# Altium footprint library Con Rect Stag PCB.PcbLib: 59 footprints (part 3 of 4)
Each footprint in its own frame and in the unit in brackets; x right, y up, seen from the top. Pads: shape width x height; smd on the part's side, far side on the other; paste and mask are expansions set on the pad; w line width, h text height; cw(c..) or ccw(c..) is an arc to the next point about the centre after c.
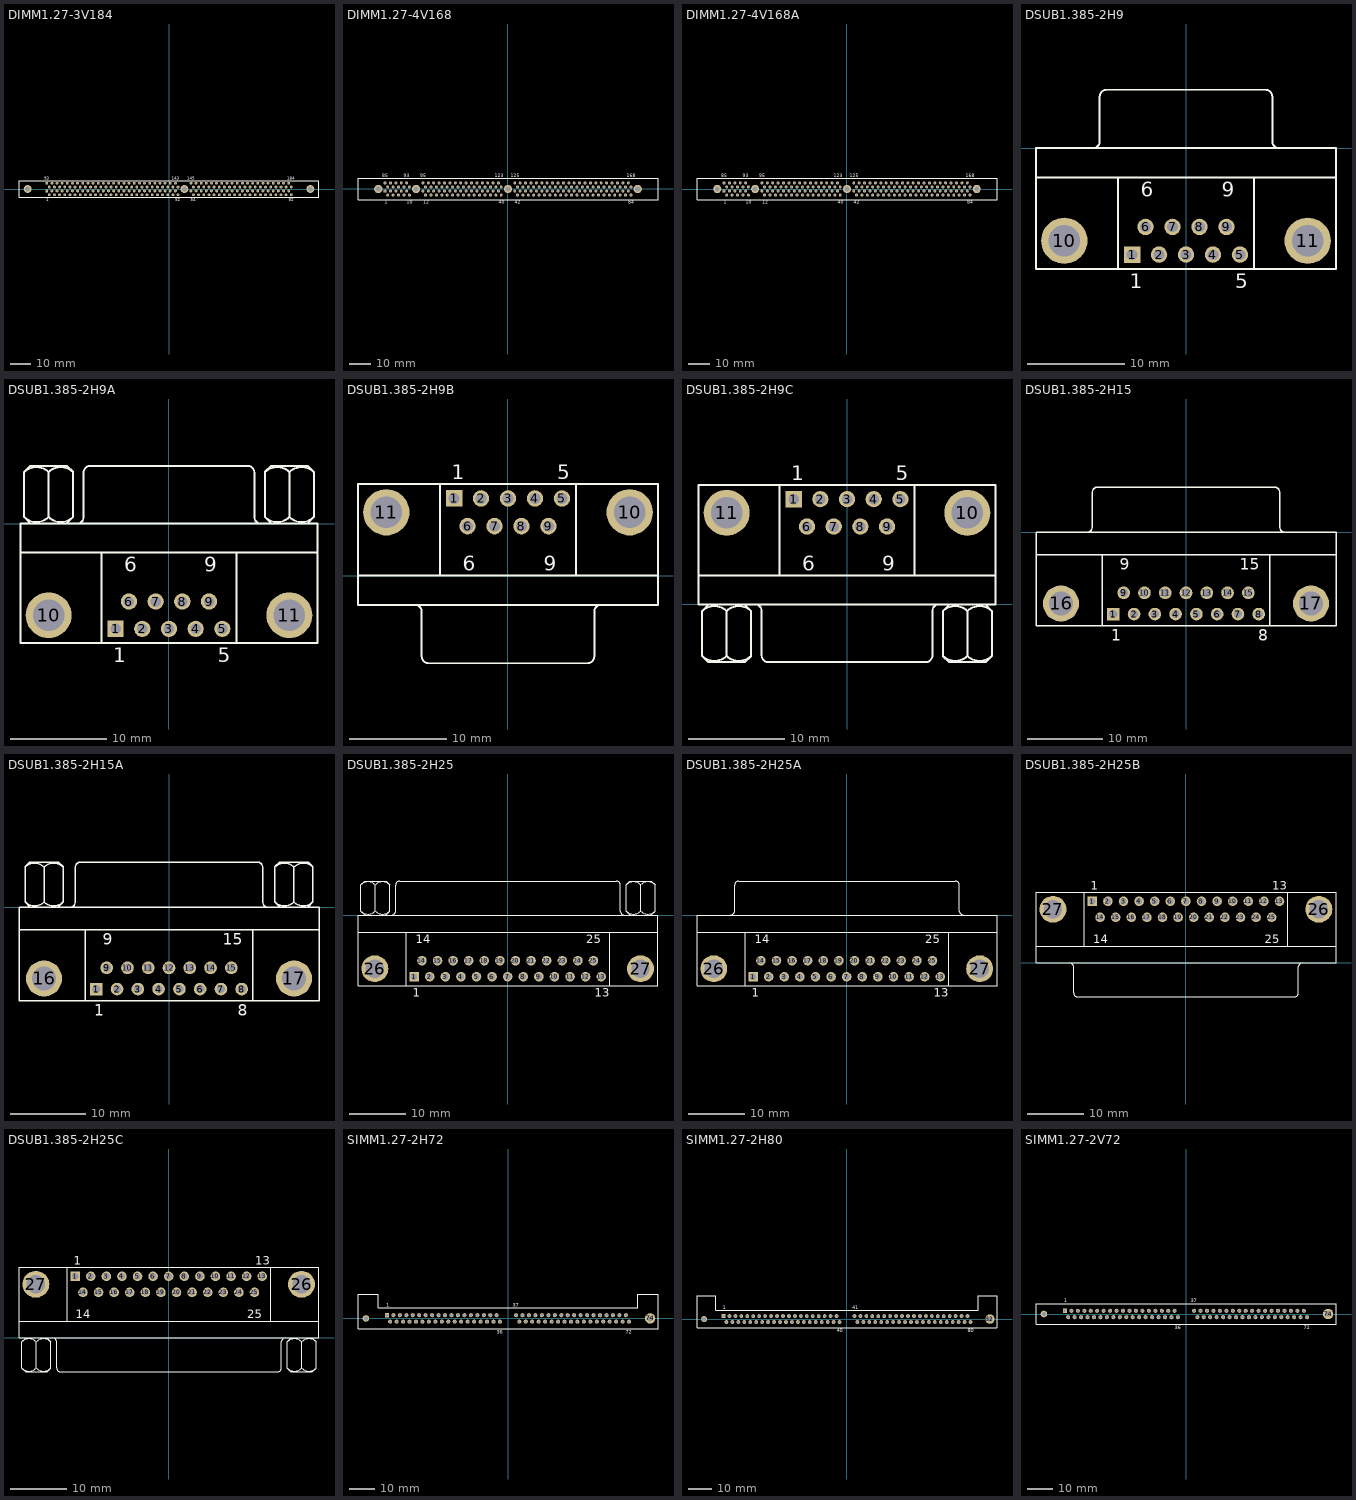
[diagram p2: the footprints below, top view; thin cyan lines are the x and y axes]

## DIMM1.27-3V184 [mm] "Connector; DIMM II; 184 Position; Vertical"
height 23.76
pads (187):
  rect 1.41x1.41 hole 0.81: 1(-60.325,-0.95)
  round 1.41 hole 0.81: 2(-59.055,-2.85) 3(-57.785,-0.95) 4(-56.515,-2.85) 5(-55.245,-0.95) 6(-53.975,-2.85) 7(-52.705,-0.95) 8(-51.435,-2.85) 9(-50.165,-0.95) 10(-48.895,-2.85) 11(-47.625,-0.95) 12(-46.355,-2.85) 13(-45.085,-0.95) 14(-43.815,-2.85) 15(-42.545,-0.95) 16(-41.275,-2.85) 17(-40.005,-0.95) 18(-38.735,-2.85) 19(-37.465,-0.95) 20(-36.195,-2.85) 21(-34.925,-0.95) 22(-33.655,-2.85) 23(-32.385,-0.95) 24(-31.115,-2.85) 25(-29.845,-0.95) 26(-28.575,-2.85) 27(-27.305,-0.95) 28(-26.035,-2.85) 29(-24.765,-0.95) 30(-23.495,-2.85) 31(-22.225,-0.95) 32(-20.955,-2.85) 33(-19.685,-0.95) 34(-18.415,-2.85) 35(-17.145,-0.95) 36(-15.875,-2.85) 37(-14.605,-0.95) 38(-13.335,-2.85) 39(-12.065,-0.95) 40(-10.795,-2.85) 41(-9.525,-0.95) 42(-8.255,-2.85) 43(-6.985,-0.95) 44(-5.715,-2.85) 45(-4.445,-0.95) 46(-3.175,-2.85) 47(-1.905,-0.95) 48(-0.635,-2.85) 49(0.635,-0.95) 50(1.905,-2.85) 51(3.175,-0.95) 52(4.445,-2.85) 53(10.795,-0.95) 54(12.065,-2.85) 55(13.335,-0.95) 56(14.605,-2.85) 57(15.875,-0.95) 58(17.145,-2.85) 59(18.415,-0.95) 60(19.685,-2.85) 61(20.955,-0.95) 62(22.225,-2.85) 63(23.495,-0.95) 64(24.765,-2.85) 65(26.035,-0.95) 66(27.305,-2.85) 67(28.575,-0.95) 68(29.845,-2.85) 69(31.115,-0.95) 70(32.385,-2.85) 71(33.655,-0.95) 72(34.925,-2.85) 73(36.195,-0.95) 74(37.465,-2.85) 75(38.735,-0.95) 76(40.005,-2.85) 77(41.275,-0.95) 78(42.545,-2.85) 79(43.815,-0.95) 80(45.085,-2.85) 81(46.355,-0.95) 82(47.625,-2.85) 83(48.895,-0.95) 84(50.165,-2.85) 85(51.435,-0.95) 86(52.705,-2.85) 87(53.975,-0.95) 88(55.245,-2.85) 89(56.515,-0.95) 90(57.785,-2.85) 91(59.055,-0.95) 92(60.325,-2.85) 93(-60.325,2.85) 94(-59.055,0.95) 95(-57.785,2.85) 96(-56.515,0.95) 97(-55.245,2.85) 98(-53.975,0.95) 99(-52.705,2.85) 100(-51.435,0.95) 101(-50.165,2.85) 102(-48.895,0.95) 103(-47.625,2.85) 104(-46.355,0.95) 105(-45.085,2.85) 106(-43.815,0.95) 107(-42.545,2.85) 108(-41.275,0.95) 109(-40.005,2.85) 110(-38.735,0.95) 111(-37.465,2.85) 112(-36.195,0.95) 113(-34.925,2.85) 114(-33.655,0.95) 115(-32.385,2.85) 116(-31.115,0.95) 117(-29.845,2.85) 118(-28.575,0.95) 119(-27.305,2.85) 120(-26.035,0.95) 121(-24.765,2.85) 122(-23.495,0.95) 123(-22.225,2.85) 124(-20.955,0.95) 125(-19.685,2.85) 126(-18.415,0.95) 127(-17.145,2.85) 128(-15.875,0.95) 129(-14.605,2.85) 130(-13.335,0.95) 131(-12.065,2.85) 132(-10.795,0.95) 133(-9.525,2.85) 134(-8.255,0.95) 135(-6.985,2.85) 136(-5.715,0.95) 137(-4.445,2.85) 138(-3.175,0.95) 139(-1.905,2.85) 140(-0.635,0.95) 141(0.635,2.85) 142(1.905,0.95) 143(3.175,2.85) 144(4.445,0.95) 145(10.795,2.85) 146(12.065,0.95) 147(13.335,2.85) 148(14.605,0.95) 149(15.875,2.85) 150(17.145,0.95) 151(18.415,2.85) 152(19.685,0.95) 153(20.955,2.85) 154(22.225,0.95) 155(23.495,2.85) 156(24.765,0.95) 157(26.035,2.85) 158(27.305,0.95) 159(28.575,2.85) 160(29.845,0.95) 161(31.115,2.85) 162(32.385,0.95) 163(33.655,2.85) 164(34.925,0.95) 165(36.195,2.85) 166(37.465,0.95) 167(38.735,2.85) 168(40.005,0.95) 169(41.275,2.85) 170(42.545,0.95) 171(43.815,2.85) 172(45.085,0.95) 173(46.355,2.85) 174(47.625,0.95) 175(48.895,2.85) 176(50.165,0.95) 177(51.435,2.85) 178(52.705,0.95) 179(53.975,2.85) 180(55.245,0.95) 181(56.515,2.85) 182(57.785,0.95) 183(59.055,2.85) 184(60.325,0.95)
  round 3.9 hole 2.44: 185(-69.735,0) 186(7.605,0) 187(69.735,0)
Top Overlay:
  lines w0.2: -74,-4 74,-4 74,4 -74,4 -74,-4
  text "143" at 1.3,4.475 h1.5
  text "93" at -61.575,4.475 h1.5
  text "184" at 58.45,4.475 h1.5
  text "92" at 59.075,-5.975 h1.5
  text "145" at 8.92,4.475 h1.5
  text "54" at 10.815,-5.975 h1.5
  text "52" at 3.195,-5.975 h1.5
  text "1" at -60.575,-5.975 h1.5

## DIMM1.27-4V168 [mm] "Connector; DIMM II; 168 Position; Vertical"
height 23.77
pads (172):
  rect 1.4x1.4 hole 0.81: 1(-57.78,-0.95)
  round 1.4 hole 0.81: 2(-56.51,-2.85) 3(-55.24,-0.95) 4(-53.97,-2.85) 5(-52.7,-0.95) 6(-51.43,-2.85) 7(-50.16,-0.95) 8(-48.89,-2.85) 9(-47.62,-0.95) 10(-46.35,-2.85) 11(-40,-0.95) 12(-38.73,-2.85) 13(-37.46,-0.95) 14(-36.19,-2.85) 15(-34.92,-0.95) 16(-33.65,-2.85) 17(-32.38,-0.95) 18(-31.11,-2.85) 19(-29.84,-0.95) 20(-28.57,-2.85) 21(-27.3,-0.95) 22(-26.03,-2.85) 23(-24.76,-0.95) 24(-23.49,-2.85) 25(-22.22,-0.95) 26(-20.95,-2.85) 27(-19.68,-0.95) 28(-18.41,-2.85) 29(-17.14,-0.95) 30(-15.87,-2.85) 31(-14.6,-0.95) 32(-13.33,-2.85) 33(-12.06,-0.95) 34(-10.79,-2.85) 35(-9.52,-0.95) 36(-8.25,-2.85) 37(-6.98,-0.95) 38(-5.71,-2.85) 39(-4.44,-0.95) 40(-3.17,-2.85) 41(3.18,-0.95) 42(4.45,-2.85) 43(5.72,-0.95) 44(6.99,-2.85) 45(8.26,-0.95) 46(9.53,-2.85) 47(10.8,-0.95) 48(12.07,-2.85) 49(13.34,-0.95) 50(14.61,-2.85) 51(15.88,-0.95) 52(17.15,-2.85) 53(18.42,-0.95) 54(19.69,-2.85) 55(20.96,-0.95) 56(22.23,-2.85) 57(23.5,-0.95) 58(24.77,-2.85) 59(26.04,-0.95) 60(27.31,-2.85) 61(28.58,-0.95) 62(29.85,-2.85) 63(31.12,-0.95) 64(32.39,-2.85) 65(33.66,-0.95) 66(34.93,-2.85) 67(36.2,-0.95) 68(37.47,-2.85) 69(38.74,-0.95) 70(40.01,-2.85) 71(41.28,-0.95) 72(42.55,-2.85) 73(43.82,-0.95) 74(45.09,-2.85) 75(46.36,-0.95) 76(47.63,-2.85) 77(48.9,-0.95) 78(50.17,-2.85) 79(51.44,-0.95) 80(52.71,-2.85) 81(53.98,-0.95) 82(55.25,-2.85) 83(56.52,-0.95) 84(57.79,-2.85) 85(-57.78,2.85) 86(-56.51,0.95) 87(-55.24,2.85) 88(-53.97,0.95) 89(-52.7,2.85) 90(-51.43,0.95) 91(-50.16,2.85) 92(-48.89,0.95) 93(-47.62,2.85) 94(-46.35,0.95) 95(-40,2.85) 96(-38.73,0.95) 97(-37.46,2.85) 98(-36.19,0.95) 99(-34.92,2.85) 100(-33.65,0.95) 101(-32.38,2.85) 102(-31.11,0.95) 103(-29.84,2.85) 104(-28.57,0.95) 105(-27.3,2.85) 106(-26.03,0.95) 107(-24.76,2.85) 108(-23.49,0.95) 109(-22.22,2.85) 110(-20.95,0.95) 111(-19.68,2.85) 112(-18.41,0.95) 113(-17.14,2.85) 114(-15.87,0.95) 115(-14.6,2.85) 116(-13.33,0.95) 117(-12.06,2.85) 118(-10.79,0.95) 119(-9.52,2.85) 120(-8.25,0.95) 121(-6.98,2.85) 122(-5.71,0.95) 123(-4.44,2.85) 124(-3.17,0.95) 125(3.18,2.85) 126(4.45,0.95) 127(5.72,2.85) 128(6.99,0.95) 129(8.26,2.85) 130(9.53,0.95) 131(10.8,2.85) 132(12.07,0.95) 133(13.34,2.85) 134(14.61,0.95) 135(15.88,2.85) 136(17.15,0.95) 137(18.42,2.85) 138(19.69,0.95) 139(20.96,2.85) 140(22.23,0.95) 141(23.5,2.85) 142(24.77,0.95) 143(26.04,2.85) 144(27.31,0.95) 145(28.58,2.85) 146(29.85,0.95) 147(31.12,2.85) 148(32.39,0.95) 149(33.66,2.85) 150(34.93,0.95) 151(36.2,2.85) 152(37.47,0.95) 153(38.74,2.85) 154(40.01,0.95) 155(41.28,2.85) 156(42.55,0.95) 157(43.82,2.85) 158(45.09,0.95) 159(46.36,2.85) 160(47.63,0.95) 161(48.9,2.85) 162(50.17,0.95) 163(51.44,2.85) 164(52.71,0.95) 165(53.98,2.85) 166(55.25,0.95) 167(56.52,2.85) 168(57.79,0.95)
  round 3.9 hole 2.44: 169(-60.96,0) 170(-43.18,0) 171(0.005,0) 172(60.96,0)
Top Overlay:
  lines w0.2: -70.485,-5 70.495,-5 70.495,5 -70.485,5 -70.485,-5
  text "95" at -41.25,5.475 h1.5
  text "12" at -39.855,-6.975 h1.5
  text "1" at -58.03,-6.975 h1.5
  text "85" at -59.03,5.475 h1.5
  text "10" at -47.475,-6.975 h1.5
  text "93" at -48.87,5.475 h1.5
  text "40" at -4.42,-6.975 h1.5
  text "42" at 3.2,-6.975 h1.5
  text "123" at -6.315,5.475 h1.5
  text "125" at 1.305,5.475 h1.5
  text "84" at 56.54,-6.975 h1.5
  text "168" at 55.915,5.475 h1.5

## DIMM1.27-4V168A [mm] "Connector; DIMM II; 168 Position; Vertical"
height 23.76
pads (172):
  rect 1.4x1.4 hole 0.81: 1(-57.78,-0.95)
  round 1.4 hole 0.81: 2(-56.51,-2.85) 3(-55.24,-0.95) 4(-53.97,-2.85) 5(-52.7,-0.95) 6(-51.43,-2.85) 7(-50.16,-0.95) 8(-48.89,-2.85) 9(-47.62,-0.95) 10(-46.35,-2.85) 11(-40,-0.95) 12(-38.73,-2.85) 13(-37.46,-0.95) 14(-36.19,-2.85) 15(-34.92,-0.95) 16(-33.65,-2.85) 17(-32.38,-0.95) 18(-31.11,-2.85) 19(-29.84,-0.95) 20(-28.57,-2.85) 21(-27.3,-0.95) 22(-26.03,-2.85) 23(-24.76,-0.95) 24(-23.49,-2.85) 25(-22.22,-0.95) 26(-20.95,-2.85) 27(-19.68,-0.95) 28(-18.41,-2.85) 29(-17.14,-0.95) 30(-15.87,-2.85) 31(-14.6,-0.95) 32(-13.33,-2.85) 33(-12.06,-0.95) 34(-10.79,-2.85) 35(-9.52,-0.95) 36(-8.25,-2.85) 37(-6.98,-0.95) 38(-5.71,-2.85) 39(-4.44,-0.95) 40(-3.17,-2.85) 41(3.18,-0.95) 42(4.45,-2.85) 43(5.72,-0.95) 44(6.99,-2.85) 45(8.26,-0.95) 46(9.53,-2.85) 47(10.8,-0.95) 48(12.07,-2.85) 49(13.34,-0.95) 50(14.61,-2.85) 51(15.88,-0.95) 52(17.15,-2.85) 53(18.42,-0.95) 54(19.69,-2.85) 55(20.96,-0.95) 56(22.23,-2.85) 57(23.5,-0.95) 58(24.77,-2.85) 59(26.04,-0.95) 60(27.31,-2.85) 61(28.58,-0.95) 62(29.85,-2.85) 63(31.12,-0.95) 64(32.39,-2.85) 65(33.66,-0.95) 66(34.93,-2.85) 67(36.2,-0.95) 68(37.47,-2.85) 69(38.74,-0.95) 70(40.01,-2.85) 71(41.28,-0.95) 72(42.55,-2.85) 73(43.82,-0.95) 74(45.09,-2.85) 75(46.36,-0.95) 76(47.63,-2.85) 77(48.9,-0.95) 78(50.17,-2.85) 79(51.44,-0.95) 80(52.71,-2.85) 81(53.98,-0.95) 82(55.25,-2.85) 83(56.52,-0.95) 84(57.79,-2.85) 85(-57.78,2.85) 86(-56.51,0.95) 87(-55.24,2.85) 88(-53.97,0.95) 89(-52.7,2.85) 90(-51.43,0.95) 91(-50.16,2.85) 92(-48.89,0.95) 93(-47.62,2.85) 94(-46.35,0.95) 95(-40,2.85) 96(-38.73,0.95) 97(-37.46,2.85) 98(-36.19,0.95) 99(-34.92,2.85) 100(-33.65,0.95) 101(-32.38,2.85) 102(-31.11,0.95) 103(-29.84,2.85) 104(-28.57,0.95) 105(-27.3,2.85) 106(-26.03,0.95) 107(-24.76,2.85) 108(-23.49,0.95) 109(-22.22,2.85) 110(-20.95,0.95) 111(-19.68,2.85) 112(-18.41,0.95) 113(-17.14,2.85) 114(-15.87,0.95) 115(-14.6,2.85) 116(-13.33,0.95) 117(-12.06,2.85) 118(-10.79,0.95) 119(-9.52,2.85) 120(-8.25,0.95) 121(-6.98,2.85) 122(-5.71,0.95) 123(-4.44,2.85) 124(-3.17,0.95) 125(3.18,2.85) 126(4.45,0.95) 127(5.72,2.85) 128(6.99,0.95) 129(8.26,2.85) 130(9.53,0.95) 131(10.8,2.85) 132(12.07,0.95) 133(13.34,2.85) 134(14.61,0.95) 135(15.88,2.85) 136(17.15,0.95) 137(18.42,2.85) 138(19.69,0.95) 139(20.96,2.85) 140(22.23,0.95) 141(23.5,2.85) 142(24.77,0.95) 143(26.04,2.85) 144(27.31,0.95) 145(28.58,2.85) 146(29.85,0.95) 147(31.12,2.85) 148(32.39,0.95) 149(33.66,2.85) 150(34.93,0.95) 151(36.2,2.85) 152(37.47,0.95) 153(38.74,2.85) 154(40.01,0.95) 155(41.28,2.85) 156(42.55,0.95) 157(43.82,2.85) 158(45.09,0.95) 159(46.36,2.85) 160(47.63,0.95) 161(48.9,2.85) 162(50.17,0.95) 163(51.44,2.85) 164(52.71,0.95) 165(53.98,2.85) 166(55.25,0.95) 167(56.52,2.85) 168(57.79,0.95)
  round 3.8 hole 2.29: 169(-60.96,0) 170(-43.18,0) 171(0.005,0) 172(60.96,0)
Top Overlay:
  lines w0.2: -70.485,-5 -70.485,5 70.495,5 70.495,-5 -70.485,-5
  text "168" at 55.915,5.475 h1.5
  text "84" at 56.54,-6.975 h1.5
  text "125" at 1.305,5.475 h1.5
  text "123" at -6.315,5.475 h1.5
  text "42" at 3.2,-6.975 h1.5
  text "40" at -4.42,-6.975 h1.5
  text "93" at -48.87,5.475 h1.5
  text "10" at -47.475,-6.975 h1.5
  text "85" at -59.03,5.475 h1.5
  text "1" at -58.03,-6.975 h1.5
  text "12" at -39.855,-6.975 h1.5
  text "95" at -41.25,5.475 h1.5

## DSUB1.385-2H9 [mm] "Connector; D Subminiature AMPLIMITE 2000; 9 Position; Right Angle"
height 12.75
pads (11):
  rect 1.69x1.69 hole 1.09: 1(-5.54,-10.92)
  round 1.69 hole 1.09: 2(-2.77,-10.92) 3(0,-10.92) 4(2.77,-10.92) 5(5.54,-10.92) 6(-4.155,-8.08) 7(-1.385,-8.08) 8(1.385,-8.08) 9(4.155,-8.08)
  round 4.76 hole 3.26: 10(-12.495,-9.5) 11(12.495,-9.5)
Top Overlay:
  lines w0.2: -15.4,-3 15.4,-3 ; -9.56,0.005 ccw(c-9.56,0.7) -8.865,0.7 -8.865,5.3 ; -8.86,5.305 cw(c-8.165,5.305) -8.165,6 8.165,6 cw(c8.165,5.305) 8.86,5.305 ; -7,-12.4 -7,-3 ; 7,-12.4 7,-3 ; 8.865,5.3 8.865,0.7 ccw(c9.56,0.7) 9.56,0.005 ; -15.4,-12.4 -15.4,0 15.4,0 15.4,-12.4 -15.4,-12.4
  text "1" at -5.79,-14.375 h1.5
  text "5" at 5.04,-14.375 h1.5
  text "9" at 3.655,-4.975 h1.5
  text "6" at -4.655,-4.975 h1.5

## DSUB1.385-2H9A [mm] "Connector; D Subminiature AMPLIMITE 2000; 9 Position; Right Angle"
height 12.75
pads (11):
  rect 1.69x1.69 hole 1.09: 1(-5.54,-10.92)
  round 1.69 hole 1.09: 2(-2.77,-10.92) 3(0,-10.92) 4(2.77,-10.92) 5(5.54,-10.92) 6(-4.155,-8.08) 7(-1.385,-8.08) 8(1.385,-8.08) 9(4.155,-8.08)
  round 4.76 hole 3.26: 10(-12.495,-9.5) 11(12.495,-9.5)
Top Overlay:
  lines w0.2: -15.4,-3 15.4,-3 ; -15.038,5.35 -15.038,0.699 -14.403,0.064 ; -15.038,5.365 -14.403,6 -10.593,6 -9.958,5.365 ; -12.498,0.699 -12.498,5.35 ; -10.593,0.064 -9.958,0.699 -9.958,5.35 ; -9.958,4.086 -9.958,4.298 ; -9.56,0.005 ccw(c-9.56,0.7) -8.865,0.7 -8.865,5.3 ; -8.86,5.305 cw(c-8.165,5.305) -8.165,6 8.165,6 cw(c8.165,5.305) 8.86,5.305 ; -7,-12.4 -7,-3 ; 7,-12.4 7,-3 ; 8.865,5.3 8.865,0.7 ccw(c9.56,0.7) 9.56,0.005 ; 9.962,5.35 9.962,0.699 10.597,0.064 ; 9.962,5.365 10.597,6 14.407,6 15.042,5.365 ; 12.502,0.699 12.502,5.35 ; 14.407,0.064 15.042,0.699 15.042,5.35 ; 15.042,4.086 15.042,4.298 ; -15.4,-12.4 -15.4,0 15.4,0 15.4,-12.4 -15.4,-12.4
  lines w0.203: -15.04,0.697 ccw(c-13.768,1.969) -12.496,0.697 ; -15.038,5.35 cw(c-13.766,4.078) -12.493,5.35 ; -12.502,5.35 cw(c-11.23,4.078) -9.958,5.35 ; -12.5,0.697 ccw(c-11.228,1.969) -9.956,0.697 ; 9.96,0.697 ccw(c11.232,1.969) 12.504,0.697 ; 9.962,5.35 cw(c11.234,4.078) 12.507,5.35 ; 12.498,5.35 cw(c13.77,4.078) 15.042,5.35 ; 12.5,0.697 ccw(c13.772,1.969) 15.044,0.697
  text "1" at -5.79,-14.375 h1.5
  text "5" at 5.04,-14.375 h1.5
  text "9" at 3.655,-4.975 h1.5
  text "6" at -4.655,-4.975 h1.5

## DSUB1.385-2H9B [mm] "Connector; D Subminiature AMPLIMITE 2000; 9 Position; Right Angle"
height 12.93
pads (11):
  rect 1.69x1.69 hole 1.09: 1(-5.54,7.92)
  round 1.69 hole 1.09: 2(-2.77,7.92) 3(0,7.92) 4(2.77,7.92) 5(5.54,7.92) 6(-4.155,5.08) 7(-1.385,5.08) 8(1.385,5.08) 9(4.155,5.08)
  round 4.76 hole 3.26: 10(12.495,6.5) 11(-12.495,6.5)
Top Overlay:
  lines w0.2: -15.4,0 15.4,0 ; -9.56,-3.005 cw(c-9.56,-3.7) -8.865,-3.7 -8.865,-8.3 ; -8.86,-8.305 ccw(c-8.165,-8.305) -8.165,-9 8.165,-9 ccw(c8.165,-8.305) 8.86,-8.305 ; -7,0 -7,9.4 ; 7,0 7,9.4 ; 8.865,-8.3 8.865,-3.7 cw(c9.56,-3.7) 9.56,-3.005 ; -15.4,-3 15.4,-3 15.4,9.4 -15.4,9.4 -15.4,-3
  text "9" at 3.655,0.48 h1.5
  text "5" at 5.04,9.88 h1.5
  text "1" at -5.79,9.88 h1.5
  text "6" at -4.655,0.48 h1.5

## DSUB1.385-2H9C [mm] "Connector; D Subminiature AMPLIMITE 2000; 9 Position; Right Angle"
height 12.75
pads (11):
  rect 1.69x1.69 hole 1.09: 1(-5.54,10.92)
  round 1.69 hole 1.09: 2(-2.77,10.92) 3(0,10.92) 4(2.77,10.92) 5(5.54,10.92) 6(-4.155,8.08) 7(-1.385,8.08) 8(1.385,8.08) 9(4.155,8.08)
  round 4.76 hole 3.26: 10(12.495,9.5) 11(-12.495,9.5)
Top Overlay:
  lines w0.2: -15.4,3 15.4,3 ; -15.042,-5.365 -14.407,-6 -10.597,-6 -9.962,-5.365 ; -15.042,-5.35 -15.042,-0.699 -14.407,-0.064 ; -15.042,-4.298 -15.042,-4.086 ; -12.502,-5.35 -12.502,-0.699 ; -10.597,-0.064 -9.962,-0.699 -9.962,-5.35 ; -9.56,-0.005 cw(c-9.56,-0.7) -8.865,-0.7 -8.865,-5.3 ; -8.86,-5.305 ccw(c-8.165,-5.305) -8.165,-6 8.165,-6 ccw(c8.165,-5.305) 8.86,-5.305 ; -7,3 -7,12.4 ; 7,3 7,12.4 ; 8.865,-5.3 8.865,-0.7 cw(c9.56,-0.7) 9.56,-0.005 ; 9.958,-5.365 10.593,-6 14.403,-6 15.038,-5.365 ; 9.958,-5.35 9.958,-0.699 10.593,-0.064 ; 9.958,-4.298 9.958,-4.086 ; 12.498,-5.35 12.498,-0.699 ; 14.403,-0.064 15.038,-0.699 15.038,-5.35 ; -15.4,0 15.4,0 15.4,12.4 -15.4,12.4 -15.4,0
  lines w0.203: -15.044,-0.697 cw(c-13.772,-1.969) -12.5,-0.697 ; -15.042,-5.35 ccw(c-13.77,-4.078) -12.498,-5.35 ; -12.507,-5.35 ccw(c-11.234,-4.078) -9.962,-5.35 ; -12.504,-0.697 cw(c-11.232,-1.969) -9.96,-0.697 ; 9.956,-0.697 cw(c11.228,-1.969) 12.5,-0.697 ; 9.958,-5.35 ccw(c11.23,-4.078) 12.502,-5.35 ; 12.493,-5.35 ccw(c13.766,-4.078) 15.038,-5.35 ; 12.496,-0.697 cw(c13.768,-1.969) 15.04,-0.697
  text "9" at 3.655,3.48 h1.5
  text "5" at 5.04,12.88 h1.5
  text "1" at -5.79,12.88 h1.5
  text "6" at -4.655,3.48 h1.5

## DSUB1.385-2H15 [mm] "Connector; D Subminiature AMPLIMITE 2000; 15 Position; Right Angle"
height 12.75
pads (17):
  rect 1.69x1.69 hole 1.09: 1(-9.695,-10.92)
  round 1.69 hole 1.09: 2(-6.925,-10.92) 3(-4.155,-10.92) 4(-1.385,-10.92) 5(1.385,-10.92) 6(4.155,-10.92) 7(6.925,-10.92) 8(9.695,-10.92) 9(-8.31,-8.08) 10(-5.54,-8.08) 11(-2.77,-8.08) 12(0,-8.08) 13(2.77,-8.08) 14(5.54,-8.08) 15(8.31,-8.08)
  round 4.8 hole 3.18: 16(-16.66,-9.5) 17(16.66,-9.5)
Top Overlay:
  lines w0.2: -20,-3 20,-3 ; -13.195,0.005 ccw(c-13.195,0.7) -12.5,0.7 -12.5,5.3 ; -12.495,5.305 cw(c-11.8,5.305) -11.8,6 11.8,6 cw(c11.8,5.305) 12.495,5.305 ; -11.14,-12.5 -11.14,-3 ; 11.14,-12.5 11.14,-3 ; 12.5,5.3 12.5,0.7 ccw(c13.195,0.7) 13.195,0.005 ; -20,-12.5 -20,0 20,0 20,-12.5 -20,-12.5
  text "1" at -9.945,-14.475 h1.5
  text "8" at 9.652,-14.475 h1.5
  text "15" at 7.185,-4.975 h1.5
  text "9" at -8.81,-4.975 h1.5

## DSUB1.385-2H15A [mm] "Connector; D Subminiature AMPLIMITE 2000; 15 Position; Right Angle"
height 12.75
pads (17):
  rect 1.69x1.69 hole 1.09: 1(-9.695,-10.92)
  round 1.69 hole 1.09: 2(-6.925,-10.92) 3(-4.155,-10.92) 4(-1.385,-10.92) 5(1.385,-10.92) 6(4.155,-10.92) 7(6.925,-10.92) 8(9.695,-10.92) 9(-8.31,-8.08) 10(-5.54,-8.08) 11(-2.77,-8.08) 12(0,-8.08) 13(2.77,-8.08) 14(5.54,-8.08) 15(8.31,-8.08)
  round 4.8 hole 3.18: 16(-16.66,-9.5) 17(16.66,-9.5)
Top Overlay:
  lines w0.2: -20,-3 20,-3 ; -19.188,5.35 -19.188,0.699 -18.553,0.064 ; -19.188,5.365 -18.553,6 -14.743,6 -14.108,5.365 ; -16.648,0.699 -16.648,5.35 ; -14.743,0.064 -14.108,0.699 -14.108,5.35 ; -14.108,4.086 -14.108,4.298 ; -13.195,0.005 ccw(c-13.195,0.7) -12.5,0.7 -12.5,5.3 ; -12.495,5.305 cw(c-11.8,5.305) -11.8,6 11.8,6 cw(c11.8,5.305) 12.495,5.305 ; -11.14,-12.5 -11.14,-3 ; 11.14,-12.5 11.14,-3 ; 12.5,5.3 12.5,0.7 ccw(c13.195,0.7) 13.195,0.005 ; 14.112,5.35 14.112,0.699 14.747,0.064 ; 14.112,5.365 14.747,6 18.557,6 19.192,5.365 ; 16.652,0.699 16.652,5.35 ; 18.557,0.064 19.192,0.699 19.192,5.35 ; 19.192,4.086 19.192,4.298 ; -20,-12.5 20,-12.5 20,0 -20,0 -20,-12.5
  lines w0.203: -19.19,0.697 ccw(c-17.918,1.969) -16.646,0.697 ; -19.188,5.35 cw(c-17.916,4.078) -16.643,5.35 ; -16.652,5.35 cw(c-15.38,4.078) -14.108,5.35 ; -16.65,0.697 ccw(c-15.378,1.969) -14.106,0.697 ; 14.11,0.697 ccw(c15.382,1.969) 16.654,0.697 ; 14.112,5.35 cw(c15.384,4.078) 16.657,5.35 ; 16.648,5.35 cw(c17.92,4.078) 19.192,5.35 ; 16.65,0.697 ccw(c17.922,1.969) 19.194,0.697
  text "9" at -8.81,-4.975 h1.5
  text "15" at 7.185,-4.975 h1.5
  text "8" at 9.195,-14.475 h1.5
  text "1" at -9.945,-14.475 h1.5

## DSUB1.385-2H25 [mm] "Connector; D Subminiature AMPLIMITE 2000; 25 Position; Right Angle"
height 12.75
pads (27):
  rect 1.69x1.69 hole 1.09: 1(-16.566,-10.92)
  round 1.69 hole 1.09: 2(-13.805,-10.92) 3(-11.044,-10.92) 4(-8.283,-10.92) 5(-5.522,-10.92) 6(-2.761,-10.92) 7(0,-10.92) 8(2.761,-10.92) 9(5.522,-10.92) 10(8.283,-10.92) 11(11.044,-10.92) 12(13.805,-10.92) 13(16.566,-10.92) 14(-15.185,-8.08) 15(-12.424,-8.08) 16(-9.663,-8.08) 17(-6.902,-8.08) 18(-4.142,-8.08) 19(-1.381,-8.08) 20(1.381,-8.08) 21(4.142,-8.08) 22(6.903,-8.08) 23(9.664,-8.08) 24(12.425,-8.08) 25(15.186,-8.08)
  round 4.76 hole 3.26: 26(-23.526,-9.5) 27(23.526,-9.5)
Top Overlay:
  lines w0.2: -26.496,-3 26.604,-3 ; -25.984,5.35 -25.984,0.699 -25.349,0.064 ; -25.984,5.365 -25.349,6 -21.539,6 -20.904,5.365 ; -23.444,0.699 -23.444,5.35 ; -21.539,0.064 -20.904,0.699 -20.904,5.35 ; -20.904,4.086 -20.904,4.298 ; -20.541,0.005 ccw(c-20.541,0.7) -19.846,0.7 -19.846,5.3 ; -19.841,5.305 cw(c-19.146,5.305) -19.146,6 19.254,6 cw(c19.254,5.305) 19.949,5.305 ; -17.946,-12.5 -17.946,-3 ; 18.054,-12.5 18.054,-3 ; 19.954,5.3 19.954,0.7 ccw(c20.649,0.7) 20.649,0.005 ; 21.016,5.35 21.016,0.699 21.651,0.064 ; 21.016,5.365 21.651,6 25.461,6 26.096,5.365 ; 23.556,0.699 23.556,5.35 ; 25.461,0.064 26.096,0.699 26.096,5.35 ; 26.096,4.086 26.096,4.298 ; -26.496,-12.5 -26.496,0 26.604,0 26.604,-12.5 -26.496,-12.5
  lines w0.203: -25.986,0.697 ccw(c-24.714,1.969) -23.442,0.697 ; -25.984,5.35 cw(c-24.712,4.078) -23.439,5.35 ; -23.448,5.35 cw(c-22.176,4.078) -20.904,5.35 ; -23.446,0.697 ccw(c-22.174,1.969) -20.902,0.697 ; 21.014,0.697 ccw(c22.286,1.969) 23.558,0.697 ; 21.016,5.35 cw(c22.288,4.078) 23.561,5.35 ; 23.552,5.35 cw(c24.824,4.078) 26.096,5.35 ; 23.554,0.697 ccw(c24.826,1.969) 26.098,0.697
  text "25" at 13.935,-4.975 h1.5
  text "14" at -16.31,-4.975 h1.5
  text "13" at 15.441,-14.475 h1.5
  text "1" at -16.816,-14.475 h1.5

## DSUB1.385-2H25A [mm] "Connector; D Subminiature AMPLIMITE 2000; 25 Position; Right Angle"
height 12.93
pads (27):
  rect 1.69x1.69 hole 1.09: 1(-16.566,-10.92)
  round 1.69 hole 1.09: 2(-13.805,-10.92) 3(-11.044,-10.92) 4(-8.283,-10.92) 5(-5.522,-10.92) 6(-2.761,-10.92) 7(0,-10.92) 8(2.761,-10.92) 9(5.522,-10.92) 10(8.283,-10.92) 11(11.044,-10.92) 12(13.805,-10.92) 13(16.566,-10.92) 14(-15.185,-8.08) 15(-12.424,-8.08) 16(-9.663,-8.08) 17(-6.902,-8.08) 18(-4.141,-8.08) 19(-1.38,-8.08) 20(1.381,-8.08) 21(4.142,-8.08) 22(6.903,-8.08) 23(9.664,-8.08) 24(12.425,-8.08) 25(15.186,-8.08)
  round 4.76 hole 3.26: 26(-23.526,-9.5) 27(23.526,-9.5)
Top Overlay:
  lines w0.2: -26.496,-3 26.604,-3 ; -20.541,0.005 ccw(c-20.541,0.7) -19.846,0.7 -19.846,5.3 ; -19.841,5.305 cw(c-19.146,5.305) -19.146,6 19.254,6 cw(c19.254,5.305) 19.949,5.305 ; -17.946,-12.5 -17.946,-3 ; 18.054,-12.5 18.054,-3 ; 19.954,5.3 19.954,0.7 ccw(c20.649,0.7) 20.649,0.005 ; -26.496,-12.5 -26.496,0 26.604,0 26.604,-12.5 -26.496,-12.5
  text "25" at 13.936,-4.975 h1.5
  text "14" at -16.31,-4.975 h1.5
  text "13" at 15.441,-14.475 h1.5
  text "1" at -16.816,-14.475 h1.5

## DSUB1.385-2H25B [mm] "Connector; D Subminiature AMPLIMITE 2000; 25 Position; Right Angle"
height 12.93
pads (27):
  rect 1.69x1.69 hole 1.09: 1(-16.566,10.92)
  round 1.69 hole 1.09: 2(-13.805,10.92) 3(-11.044,10.92) 4(-8.283,10.92) 5(-5.522,10.92) 6(-2.761,10.92) 7(0,10.92) 8(2.761,10.92) 9(5.522,10.92) 10(8.283,10.92) 11(11.044,10.92) 12(13.805,10.92) 13(16.566,10.92) 14(-15.185,8.08) 15(-12.424,8.08) 16(-9.663,8.08) 17(-6.902,8.08) 18(-4.141,8.08) 19(-1.38,8.08) 20(1.381,8.08) 21(4.142,8.08) 22(6.903,8.08) 23(9.664,8.08) 24(12.425,8.08) 25(15.186,8.08)
  round 4.76 hole 3.26: 26(23.526,9.5) 27(-23.526,9.5)
Top Overlay:
  lines w0.2: -26.532,3 26.568,3 ; -20.577,-0.005 cw(c-20.577,-0.7) -19.882,-0.7 -19.882,-5.3 ; -19.877,-5.305 ccw(c-19.182,-5.305) -19.182,-6 19.218,-6 ccw(c19.218,-5.305) 19.913,-5.305 ; -17.982,3 -17.982,12.5 ; 18.018,3 18.018,12.5 ; 19.918,-5.3 19.918,-0.7 cw(c20.613,-0.7) 20.613,-0.005 ; -26.532,0 26.568,0 26.568,12.5 -26.532,12.5 -26.532,0
  text "1" at -16.816,12.98 h1.5
  text "13" at 15.316,12.98 h1.5
  text "14" at -16.435,3.48 h1.5
  text "25" at 13.936,3.48 h1.5

## DSUB1.385-2H25C [mm] "Connector; D Subminiature AMPLIMITE 2000; 25 Position; Right Angle"
height 12.75
pads (27):
  rect 1.69x1.69 hole 1.09: 1(-16.566,10.92)
  round 1.69 hole 1.09: 2(-13.805,10.92) 3(-11.044,10.92) 4(-8.283,10.92) 5(-5.522,10.92) 6(-2.761,10.92) 7(0,10.92) 8(2.761,10.92) 9(5.522,10.92) 10(8.283,10.92) 11(11.044,10.92) 12(13.805,10.92) 13(16.566,10.92) 14(-15.185,8.08) 15(-12.424,8.08) 16(-9.663,8.08) 17(-6.902,8.08) 18(-4.141,8.08) 19(-1.38,8.08) 20(1.381,8.08) 21(4.142,8.08) 22(6.903,8.08) 23(9.664,8.08) 24(12.425,8.08) 25(15.186,8.08)
  round 4.76 hole 3.26: 26(23.526,9.5) 27(-23.526,9.5)
Top Overlay:
  lines w0.2: -26.496,3 26.604,3 ; -25.988,-5.365 -25.353,-6 -21.543,-6 -20.908,-5.365 ; -25.988,-5.35 -25.988,-0.699 -25.353,-0.064 ; -25.988,-4.298 -25.988,-4.086 ; -23.448,-5.35 -23.448,-0.699 ; -21.543,-0.064 -20.908,-0.699 -20.908,-5.35 ; -20.541,-0.005 cw(c-20.541,-0.7) -19.846,-0.7 -19.846,-5.3 ; -19.841,-5.305 ccw(c-19.146,-5.305) -19.146,-6 19.254,-6 ccw(c19.254,-5.305) 19.949,-5.305 ; -17.946,3 -17.946,12.5 ; 18.054,3 18.054,12.5 ; 19.954,-5.3 19.954,-0.7 cw(c20.649,-0.7) 20.649,-0.005 ; 21.012,-5.365 21.647,-6 25.457,-6 26.092,-5.365 ; 21.012,-5.35 21.012,-0.699 21.647,-0.064 ; 21.012,-4.298 21.012,-4.086 ; 23.552,-5.35 23.552,-0.699 ; 25.457,-0.064 26.092,-0.699 26.092,-5.35 ; -26.496,0 26.604,0 26.604,12.5 -26.496,12.5 -26.496,0
  lines w0.203: -25.99,-0.697 cw(c-24.718,-1.969) -23.446,-0.697 ; -25.988,-5.35 ccw(c-24.716,-4.078) -23.444,-5.35 ; -23.453,-5.35 ccw(c-22.18,-4.078) -20.908,-5.35 ; -23.45,-0.697 cw(c-22.178,-1.969) -20.906,-0.697 ; 21.01,-0.697 cw(c22.282,-1.969) 23.554,-0.697 ; 21.012,-5.35 ccw(c22.284,-4.078) 23.556,-5.35 ; 23.547,-5.35 ccw(c24.82,-4.078) 26.092,-5.35 ; 23.55,-0.697 cw(c24.822,-1.969) 26.094,-0.697
  text "1" at -16.816,12.98 h1.5
  text "13" at 15.316,12.98 h1.5
  text "14" at -16.435,3.48 h1.5
  text "25" at 13.936,3.48 h1.5

## SIMM1.27-2H72 [mm] "Connector; SIMM; 72 Position; Orientation 22°"
height 12.7
pads (74):
  rect 1.6x1.6 hole 1.02: 1(-47.625,1.27)
  round 1.6 hole 1.02: 2(-46.355,-1.27) 3(-45.085,1.27) 4(-43.815,-1.27) 5(-42.545,1.27) 6(-41.275,-1.27) 7(-40.005,1.27) 8(-38.735,-1.27) 9(-37.465,1.27) 10(-36.195,-1.27) 11(-34.925,1.27) 12(-33.655,-1.27) 13(-32.385,1.27) 14(-31.115,-1.27) 15(-29.845,1.27) 16(-28.575,-1.27) 17(-27.305,1.27) 18(-26.035,-1.27) 19(-24.765,1.27) 20(-23.495,-1.27) 21(-22.225,1.27) 22(-20.955,-1.27) 23(-19.685,1.27) 24(-18.415,-1.27) 25(-17.145,1.27) 26(-15.875,-1.27) 27(-14.605,1.27) 28(-13.335,-1.27) 29(-12.065,1.27) 30(-10.795,-1.27) 31(-9.525,1.27) 32(-8.255,-1.27) 33(-6.985,1.27) 34(-5.715,-1.27) 35(-4.445,1.27) 36(-3.175,-1.27) 37(3.175,1.27) 38(4.445,-1.27) 39(5.715,1.27) 40(6.985,-1.27) 41(8.255,1.27) 42(9.525,-1.27) 43(10.795,1.27) 44(12.065,-1.27) 45(13.335,1.27) 46(14.605,-1.27) 47(15.875,1.27) 48(17.145,-1.27) 49(18.415,1.27) 50(19.685,-1.27) 51(20.955,1.27) 52(22.225,-1.27) 53(23.495,1.27) 54(24.765,-1.27) 55(26.035,1.27) 56(27.305,-1.27) 57(28.575,1.27) 58(29.845,-1.27) 59(31.115,1.27) 60(32.385,-1.27) 61(33.655,1.27) 62(34.925,-1.27) 63(36.195,1.27) 64(37.465,-1.27) 65(38.735,1.27) 66(40.005,-1.27) 67(41.275,1.27) 68(42.545,-1.27) 69(43.815,1.27) 70(45.085,-1.27) 71(46.355,1.27) 72(47.625,-1.27)
  round 2.6 hole 1.63: 73(-55.88,0)
  round 4.1 hole 2.41: 74(55.88,0)
Top Overlay:
  lines w0.2: 50.97,4.12 -50.97,4.12 -50.97,9.6 -59,9.6 -59,-4.12 59,-4.12 59,9.6 50.97,9.6 50.97,4.218
  text "72" at 46.375,-6.095 h1.5
  text "37" at 1.925,4.595 h1.5
  text "36" at -4.425,-6.095 h1.5
  text "1" at -47.875,4.595 h1.5

## SIMM1.27-2H80 [mm] "Connector; SIMM; 80 Position; Orientation 25°"
height 12.7
pads (82):
  rect 1.62x1.62 hole 1.02: 1(-52.705,1.27)
  round 1.62 hole 1.02: 2(-51.435,-1.27) 3(-50.165,1.27) 4(-48.895,-1.27) 5(-47.625,1.27) 6(-46.355,-1.27) 7(-45.085,1.27) 8(-43.815,-1.27) 9(-42.545,1.27) 10(-41.275,-1.27) 11(-40.005,1.27) 12(-38.735,-1.27) 13(-37.465,1.27) 14(-36.195,-1.27) 15(-34.925,1.27) 16(-33.655,-1.27) 17(-32.385,1.27) 18(-31.115,-1.27) 19(-29.845,1.27) 20(-28.575,-1.27) 21(-27.305,1.27) 22(-26.035,-1.27) 23(-24.765,1.27) 24(-23.495,-1.27) 25(-22.225,1.27) 26(-20.955,-1.27) 27(-19.685,1.27) 28(-18.415,-1.27) 29(-17.145,1.27) 30(-15.875,-1.27) 31(-14.605,1.27) 32(-13.335,-1.27) 33(-12.065,1.27) 34(-10.795,-1.27) 35(-9.525,1.27) 36(-8.255,-1.27) 37(-6.985,1.27) 38(-5.715,-1.27) 39(-4.445,1.27) 40(-3.175,-1.27) 41(3.175,1.27) 42(4.445,-1.27) 43(5.715,1.27) 44(6.985,-1.27) 45(8.255,1.27) 46(9.525,-1.27) 47(10.795,1.27) 48(12.065,-1.27) 49(13.335,1.27) 50(14.605,-1.27) 51(15.875,1.27) 52(17.145,-1.27) 53(18.415,1.27) 54(19.685,-1.27) 55(20.955,1.27) 56(22.225,-1.27) 57(23.495,1.27) 58(24.765,-1.27) 59(26.035,1.27) 60(27.305,-1.27) 61(28.575,1.27) 62(29.845,-1.27) 63(31.115,1.27) 64(32.385,-1.27) 65(33.655,1.27) 66(34.925,-1.27) 67(36.195,1.27) 68(37.465,-1.27) 69(38.735,1.27) 70(40.005,-1.27) 71(41.275,1.27) 72(42.545,-1.27) 73(43.815,1.27) 74(45.085,-1.27) 75(46.355,1.27) 76(47.625,-1.27) 77(48.895,1.27) 78(50.165,-1.27) 79(51.435,1.27) 80(52.705,-1.27)
  round 2.53 hole 1.63: 81(-60.96,0)
  round 4 hole 2.41: 82(60.96,0)
Top Overlay:
  lines w0.2: -55.97,3.7 55.97,3.7 ; -55.97,3.798 -55.97,10.02 -64,10.02 -64,-3.7 64,-3.7 64,10.02 55.97,10.02 55.97,3.798
  text "80" at 51.455,-5.675 h1.5
  text "41" at 2.175,4.175 h1.5
  text "40" at -4.425,-5.675 h1.5
  text "1" at -52.955,4.175 h1.5

## SIMM1.27-2V72 [mm] "Connector; SIMM; 72 Position; Vertical"
height 14.6
pads (74):
  rect 1.6x1.6 hole 1.02: 1(-47.625,1.27)
  round 1.6 hole 1.02: 2(-46.355,-1.27) 3(-45.085,1.27) 4(-43.815,-1.27) 5(-42.545,1.27) 6(-41.275,-1.27) 7(-40.005,1.27) 8(-38.735,-1.27) 9(-37.465,1.27) 10(-36.195,-1.27) 11(-34.925,1.27) 12(-33.655,-1.27) 13(-32.385,1.27) 14(-31.115,-1.27) 15(-29.845,1.27) 16(-28.575,-1.27) 17(-27.305,1.27) 18(-26.035,-1.27) 19(-24.765,1.27) 20(-23.495,-1.27) 21(-22.225,1.27) 22(-20.955,-1.27) 23(-19.685,1.27) 24(-18.415,-1.27) 25(-17.145,1.27) 26(-15.875,-1.27) 27(-14.605,1.27) 28(-13.335,-1.27) 29(-12.065,1.27) 30(-10.795,-1.27) 31(-9.525,1.27) 32(-8.255,-1.27) 33(-6.985,1.27) 34(-5.715,-1.27) 35(-4.445,1.27) 36(-3.175,-1.27) 37(3.175,1.27) 38(4.445,-1.27) 39(5.715,1.27) 40(6.985,-1.27) 41(8.255,1.27) 42(9.525,-1.27) 43(10.795,1.27) 44(12.065,-1.27) 45(13.335,1.27) 46(14.605,-1.27) 47(15.875,1.27) 48(17.145,-1.27) 49(18.415,1.27) 50(19.685,-1.27) 51(20.955,1.27) 52(22.225,-1.27) 53(23.495,1.27) 54(24.765,-1.27) 55(26.035,1.27) 56(27.305,-1.27) 57(28.575,1.27) 58(29.845,-1.27) 59(31.115,1.27) 60(32.385,-1.27) 61(33.655,1.27) 62(34.925,-1.27) 63(36.195,1.27) 64(37.465,-1.27) 65(38.735,1.27) 66(40.005,-1.27) 67(41.275,1.27) 68(42.545,-1.27) 69(43.815,1.27) 70(45.085,-1.27) 71(46.355,1.27) 72(47.625,-1.27)
  round 2.6 hole 1.63: 73(-55.88,0)
  round 4.1 hole 2.41: 74(55.88,0)
Top Overlay:
  lines w0.2: -59,-4.12 -59,4.12 59,4.12 59,-4.12 -59,-4.12
  text "72" at 46.375,-6.095 h1.5
  text "37" at 1.925,4.595 h1.5
  text "36" at -4.425,-6.095 h1.5
  text "1" at -47.875,4.595 h1.5